# Altium schematic symbol library Microver.SchLib: 988 symbols (part 1 of 17)
Pins are listed as number, name and electrical type; pins without a type are passive.

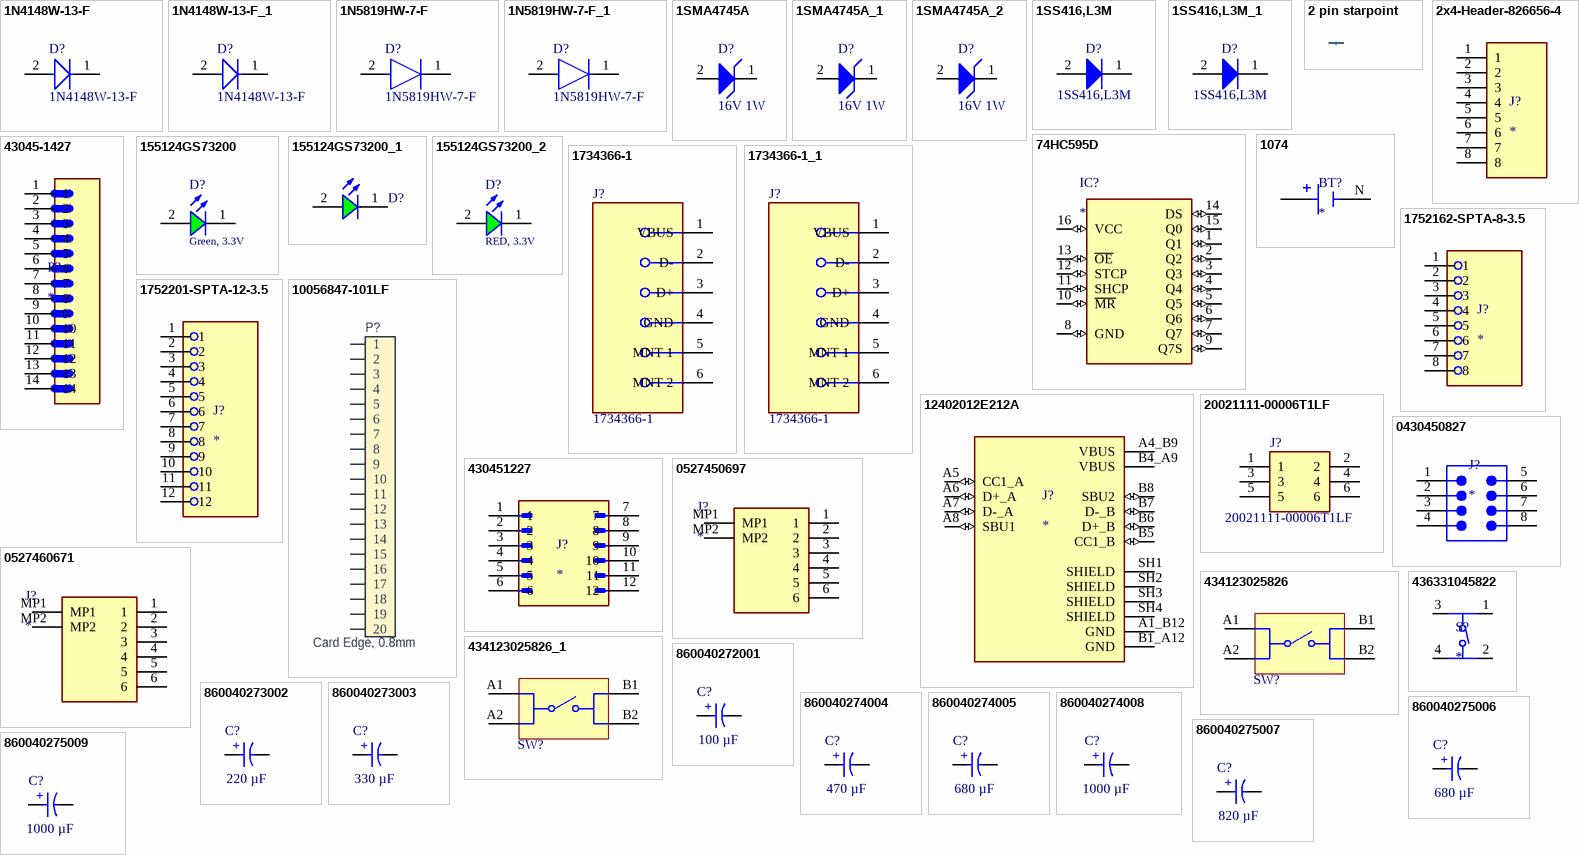
[diagram p0: symbols 1N4148W-13-F to 860040275009]

## 1N4148W-13-F
designator D?, comment Manufacturer Part Number: 1N4148W-13-F  (hidden comment: DIODE GEN PURP 100V 300MA SOD123)
Diode Standard 100 V 300mA Surface Mount SOD-123; Order Code: Digi: 1N4148W-13FDITR-ND; LCSC Manufacturer Part Number: 1N4148W-13-F; LCSC Part Number: C112342
footprint Diodes_Inc._SOD123_IPC_C
pins: 1 C, 2 A

## 1N4148W-13-F_1
designator D?, comment Manufacturer Part Number: 1N4148W-13-F  (hidden comment: DIODE GEN PURP 100V 300MA SOD123)
Diode Standard 100 V 300mA Surface Mount SOD-123; Order Code: Digi: 1N4148W-13FDITR-ND; LCSC Manufacturer Part Number: 1N4148W-13-F; LCSC Part Number: C112342
footprint Diodes_Inc._SOD123_IPC_C
pins: 1 C, 2 A

## 1N5819HW-7-F
designator D?, comment Manufacturer Part Number: 1N5819HW-7-F  (hidden comment: DIODE SCHOTTKY 40V 1A SOD123)
Diode 40 V 1A Surface Mount SOD-123; Order Code: Digi: 1N5819HW-FDITR-ND; LCSC Manufacturer Part Number: 1N5819HW-7-F; LCSC Part Number: C82544
footprint Diodes_SOD123_IPC_A
footprint Diodes_SOD123_IPC_B
footprint Diodes_SOD123_IPC_C
footprint Diodes_SOD123_MFG
pins: 1 C, 2 A

## 1N5819HW-7-F_1
designator D?, comment Manufacturer Part Number: 1N5819HW-7-F  (hidden comment: DIODE SCHOTTKY 40V 1A SOD123)
Diode 40 V 1A Surface Mount SOD-123; Order Code: Digi: 1N5819HW-FDITR-ND; LCSC Manufacturer Part Number: 1N5819HW-7-F; LCSC Part Number: C82544
footprint Diodes_SOD123_IPC_A
footprint Diodes_SOD123_IPC_B
footprint Diodes_SOD123_IPC_C
footprint Diodes_SOD123_MFG
pins: 1 C, 2 A

## 1SMA4745A
designator D?, comment Voltage: 16V 1W  (hidden comment: ±5% Single 15.2V~16.8V 1W 16V SMA(DO-214AC) Zener Diodes ROHS)
Manufacturer Part Number: 1SMA4745A; Order Code: LCSC: C362282; LCSC Manufacturer Part Number: 1SMA4745A; LCSC Part Number: C362282
footprint DIOM5226X230N
pins: 1 K, 2 A

## 1SMA4745A_1
designator D?, comment Voltage: 16V 1W  (hidden comment: ±5% Single 15.2V~16.8V 1W 16V SMA(DO-214AC) Zener Diodes ROHS)
Manufacturer Part Number: 1SMA4745A; Order Code: LCSC: C362282; LCSC Manufacturer Part Number: 1SMA4745A; LCSC Part Number: C362282
footprint DIOM5226X230N
pins: 1 K, 2 A

## 1SMA4745A_2
designator D?, comment Voltage: 16V 1W  (hidden comment: ±5% Single 15.2V~16.8V 1W 16V SMA(DO-214AC) Zener Diodes ROHS)
Manufacturer Part Number: 1SMA4745A; Order Code: LCSC: C362282; LCSC Manufacturer Part Number: 1SMA4745A; LCSC Part Number: C362282
footprint DIOM5226X230N
pins: 1 K, 2 A

## 1SS416,L3M
designator D?
Diode 30 V 100mA Surface Mount SOD-923; LCSC Manufacturer Part Number: 1SS416,L3M(B; Order Code: Digi: 1SS416L3MTR-ND; LCSC Part Number: C2943683; Manufacturer Part Number: 1SS416,L3M
footprint SOD-923-2 (SOD, 2-Leads, Body 0.8x0.6mm)
pins: 1 K, 2 A

## 1SS416,L3M_1
designator D?, comment 1SS416,L3M
Diode 30 V 100mA Surface Mount SOD-923; LCSC Manufacturer Part Number: 1SS416,L3M(B; Order Code: Digi: 1SS416L3MTR-ND; LCSC Part Number: C2943683; Manufacturer Part Number: 1SS416,L3M
footprint SOD-923-2 (SOD, 2-Leads, Body 0.8x0.6mm)
pins: 1 K, 2 A

## 2 pin starpoint
designator ST?, comment Net tie  (value not drawn)  (net tie, no BOM)
Starpoint; Part Number: 2 pin starpoint; Manufacturer: N.A.; Part number NEMS: 100500603; Pad Count: 2; Component Status: Active; System: Connector; Manufacturer Part Number: N.A.; ComponentLink1URL: N.A.; ComponentLink1Description: Datasheet; ComponentLink2URL: N.A.; ComponentLink2Description: Supplier link; HelpURL: N.A.; Footprint Doc: N.A.; LatestRevisionDate: 2017-08-31; Published: 2017-08-31; Value: Net tie; Note: Net tie; Supplier 1: N.A.; Supplier Part Number 1: N.A.; Supplier 2: N.A.; Supplier Part Number 2: N.A.; Artikkelnr Noca: N.A.; Part number IPS: N.A.; Author: rsk; Component Class: Connectors; PartId: 100500603; Part number Norautron: N.A.
footprint 2 PIN STARPOINT
pins: 1, 2

## 2x4-Header-826656-4
designator J?
MP: 826656-4; Package: None; Price: None; Value: *; Availability: Unavailable
footprint TE_826656-4
pins: 1, 2, 3, 4, 5, 6, 7, 8

## 74HC595D
designator IC?
Shift Register Single 8-Bit Serial to Serial/Parallel 16-Pin SOIC T/R; MF: NXP Semiconductors; MP: 74HC595D; SnapEDA_Link: https://www.snapeda.com/parts/74HC595D/NXP+Semiconductors/view-part/?ref=snap; Package: SOIC-16 ON Semiconductor; Value: *; Check_prices: https://www.snapeda.com/parts/74HC595D/NXP+Semiconductors/view-part/?ref=eda
footprint SOIC127P600X175-16N
pins: 1 Q1 (io), 2 Q2 (io), 3 Q3 (io), 4 Q4 (io), 5 Q5 (io), 6 Q6 (io), 7 Q7 (io), 8 GND (io), 9 Q7S (io), 10 ~{MR} (io), 11 SHCP (io), 12 STCP (io), 13 ~{OE} (io), 14 DS (io), 15 Q0 (io), 16 VCC (io)

## 1074
designator BT?
THM (Vertical) Holder for 20mm Cel; MF: Keystone Electronics; MP: 1074; SnapEDA_Link: https://www.snapeda.com/parts/1074/Keystone/view-part/?ref=snap; Package: None; Value: *; Check_prices: https://www.snapeda.com/parts/1074/Keystone/view-part/?ref=eda
footprint BAT_1074
pins: N NEG, P_1 POS, P_2 POS

## 43045-1427
designator P?
Conn Power HDR 14 POS 3mm Solder ST Thru-Hole 14 Terminal 1 Port Micro-Fit 3.0; MP: 43045-1427; Price: None; Package: None; Availability: Unavailable; Value: *
footprint MOLEX_43045-1427
pins: 1, 2, 3, 4, 5, 6, 7, 8, 9, 10, 11, 12, 13, 14

## 155124GS73200
designator D?, comment Green, 3.3V
WURTH ELEKTRONIK   155124GS73200   LED, 1204, GREEN, 600MCD, 525NM; Manufacturer: Wurth Electronics; Color: Yellow; Viewing Angle: 120°; Lens Style: Clear,Dome; Test Current: 20mA; Forward Current: 25mA; ComponentLink1Description: Manufacturer; ComponentLink1URL: http://www.we-online.de; ComponentLink2URL: https://www.we-online.com/catalog/datasheet/155124GS73200.pdf; ComponentLink2Description: Datasheet; Supplier 1: Digi-Key; Supplier Part Number 1: 732-5024-1-ND; Manufacturer Part Number: 155124GS73200; RoHS: Yes; Category: LEDs; Stock 1: 15068; Pricing 1: 1=0,45000, 50=0,41800, 100=0,35900, 500=0,28400 (USD); Mount: Surface Mount; Case/Package: 1204; Min Operating Temperature: -40°C; Max Operating Temperature: 85°C; Packaging: Tape and Reel; Luminous Intensity: 600mcd; Forward Voltage: 3.3V; Dominant Wavelength: 525nm; Package Quantity: 1; Wavelength: 525nm; Length: 3.2mm; Width: 1.5mm; Height: 1mm; RoHS Compliant: Yes; REACH SVHC: Unknown; ComponentLink3URL: https://datasheet.ciiva.com/29562/155124gs73200-29562964.pdf?src-supplier=Digi-Key; ComponentLink3Description: https://datasheet.ciiva.com/29562/155124gs73200-29562964.pdf?src-supplier=Digi-Key; ComponentLink4URL: https://datasheet.ciiva.com/29279/759456-da-01-en-smd-chipled-s-v-gruen-155124gs73200-29279079.pdf?src-supplier=Conrad; ComponentLink4Description: https://datasheet.ciiva.com/29279/759456-da-01-en-smd-chipled-s-v-gruen-155124gs73200-29279079.pdf?src-supplier=Conrad; ComponentLink5URL: https://datasheet.ciiva.com/29562/155124gs73200-29562965.pdf?src-supplier=Digi-Key; ComponentLink5Description: https://datasheet.ciiva.com/29562/155124gs73200-29562965.pdf?src-supplier=Digi-Key; ComponentLink6URL: https://datasheet.ciiva.com/48430/155124gs73200-eng-tds-48430069.pdf?src-supplier=Distrelec; ComponentLink6Description: https://datasheet.ciiva.com/48430/155124gs73200-eng-tds-48430069.pdf?src-supplier=Distrelec; ComponentLink7URL: https://datasheet.ciiva.com/29562/155124gs73200-29562966.pdf?src-supplier=Digi-Key; ComponentLink7Description: https://datasheet.ciiva.com/29562/155124gs73200-29562966.pdf?src-supplier=Digi-Key
footprint WL-SMSW_1204
pins: 1 K, 2 A

## 155124GS73200_1
designator D?, comment Green, 3.3V  (value not drawn)
Green 525nm LED Indication - Discrete 3.3V 2-SMD, Side View; Manufacturer Part Number: 155124GS73200
footprint WL-SMSW_1204
pins: 1 K, 2 A

## 155124GS73200_2
designator D?, comment RED, 3.3V
LED RED CLEAR 1204 SMD R/A; Manufacturer: Wurth Electronics; Manufacturer Part Number: 155124RS73200; Luminous Intensity: 130mcd; Viewing Angle: 120°; Forward Voltage: 2V; Lens Style: Clear,Dome; Dominant Wavelength: 624nm; Test Current: 20mA; Forward Current: 25mA; ComponentLink1Description: Manufacturer; ComponentLink1URL: http://www.we-online.de; ComponentLink2URL: https://www.we-online.com/catalog/datasheet/155124GS73200.pdf; ComponentLink2Description: Datasheet; ComponentLink3URL: https://datasheet.ciiva.com/29562/155124gs73200-29562964.pdf?src-supplier=Digi-Key; ComponentLink3Description: https://datasheet.ciiva.com/29562/155124gs73200-29562964.pdf?src-supplier=Digi-Key; ComponentLink4URL: https://datasheet.ciiva.com/29279/759456-da-01-en-smd-chipled-s-v-gruen-155124gs73200-29279079.pdf?src-supplier=Conrad; ComponentLink4Description: https://datasheet.ciiva.com/29279/759456-da-01-en-smd-chipled-s-v-gruen-155124gs73200-29279079.pdf?src-supplier=Conrad; ComponentLink5URL: https://datasheet.ciiva.com/29562/155124gs73200-29562965.pdf?src-supplier=Digi-Key; ComponentLink5Description: https://datasheet.ciiva.com/29562/155124gs73200-29562965.pdf?src-supplier=Digi-Key; ComponentLink6URL: https://datasheet.ciiva.com/48430/155124gs73200-eng-tds-48430069.pdf?src-supplier=Distrelec; ComponentLink6Description: https://datasheet.ciiva.com/48430/155124gs73200-eng-tds-48430069.pdf?src-supplier=Distrelec; ComponentLink7URL: https://datasheet.ciiva.com/29562/155124gs73200-29562966.pdf?src-supplier=Digi-Key; ComponentLink7Description: https://datasheet.ciiva.com/29562/155124gs73200-29562966.pdf?src-supplier=Digi-Key; Supplier 1: Digi-Key; Supplier Part Number 1: 732-5025-1-ND; RoHS: Yes; Category: LEDs; Pricing 1: 1=0,20000, 50=0,18300, 100=0,15800, 500=0,12500 (USD); Mount: Surface Mount; Case/Package: 1204; Color: Red; Min Operating Temperature: -40°C; Max Operating Temperature: 85°C; Packaging: Tape and Reel; Wavelength: 624nm; Package Quantity: 1; Length: 3.2mm; Width: 1.5mm; Height: 1mm; RoHS Compliant: Yes; REACH SVHC: Unknown; ComponentLink8URL: https://datasheet.ciiva.com/22657/155124rs73200-22657057.pdf?src-supplier=Element14; ComponentLink8Description: https://datasheet.ciiva.com/22657/155124rs73200-22657057.pdf?src-supplier=Element14; ComponentLink9URL: https://datasheet.ciiva.com/29278/759458-da-01-en-smd-chipled-s-v-rot-155124rs73200-29278943.pdf?src-supplier=Conrad; ComponentLink9Description: https://datasheet.ciiva.com/29278/759458-da-01-en-smd-chipled-s-v-rot-155124rs73200-29278943.pdf?src-supplier=Conrad; ComponentLink10URL: https://datasheet.ciiva.com/48430/155124rs73200-eng-tds-48430070.pdf?src-supplier=Distrelec; ComponentLink10Description: https://datasheet.ciiva.com/48430/155124rs73200-eng-tds-48430070.pdf?src-supplier=Distrelec; ComponentLink11URL: https://datasheet.ciiva.com/29563/155124rs73200-29563003.pdf?src-supplier=Digi-Key; ComponentLink11Description: https://datasheet.ciiva.com/29563/155124rs73200-29563003.pdf?src-supplier=Digi-Key; ComponentLink12URL: https://datasheet.ciiva.com/29563/155124rs73200-29563004.pdf?src-supplier=Digi-Key; ComponentLink12Description: https://datasheet.ciiva.com/29563/155124rs73200-29563004.pdf?src-supplier=Digi-Key; ComponentLink13URL: https://datasheet.ciiva.com/29563/155124rs73200-29563005.pdf?src-supplier=Digi-Key; ComponentLink13Description: https://datasheet.ciiva.com/29563/155124rs73200-29563005.pdf?src-supplier=Digi-Key
footprint WL-SMSW_1204
footprint WL-SMSW_1204 (SMD Mono-color Side view Waterclear, body 3.2x1.5mm)
pins: 1 K, 2 A

## 1734366-1
designator J?, comment Manufacturer Part Number: 1734366-1  (hidden comment: CONN RCPT USB2.0 TYPEA 4POS VERT)
Type-A 1 Female 4 USB 2.0 Plugin USB Connectors ROHS; Order Code: LSCS:  C305910; LCSC Manufacturer Part Number: 1734366-1; LCSC Part Number: C305910
footprint Wurth_Electronics_614004135023_MFG
pins: 1 VBUS, 2 D-, 3 D+, 4 GND, 5 MNT 1, 6 MNT 2

## 1734366-1_1
designator J?, comment Manufacturer Part Number: 1734366-1  (hidden comment: CONN RCPT USB2.0 TYPEA 4POS VERT)
Type-A 1 Female 4 USB 2.0 Plugin USB Connectors ROHS; Order Code: LSCS:  C305910; LCSC Manufacturer Part Number: 1734366-1; LCSC Part Number: C305910
footprint Wurth_Electronics_614004135023_MFG
pins: 1 VBUS, 2 D-, 3 D+, 4 GND, 5 MNT 1, 6 MNT 2

## 1752162-SPTA-8-3.5
designator J?
MF: {'manufacturer': u'Phoenix Contact'}; MP: 1752162; Package: None; Price: None; Value: *; Availability: Unavailable
footprint PHOENIX_1752162
pins: 1, 2, 3, 4, 5, 6, 7, 8

## 1752201-SPTA-12-3.5
designator J?
MP: 1752201; Package: None; Price: None; Value: *; Availability: Unavailable; Manufacturer Part Number: 1752201
footprint PHOENIX_1752201
pins: 1, 2, 3, 4, 5, 6, 7, 8, 9, 10, 11, 12

## 10056847-101LF
designator P?, comment Card Edge, 0.8mm
0.8mm pitch, dual edge, right angle, SMD, card edge connector; Part Number: 10056847-101LF; Manufacturer: FCI; Part number NEMS: 100500633; Note: N.A.; Pad Count: 20; Component Status: Active; Manufacturer Part Number: 10056847-101LF; ComponentLink1URL: https://www.amphenol-icc.com/media/wysiwyg/files/drawing/10056847.pdf; ComponentLink1Description: Datasheet; ComponentLink2URL: N.A.; ComponentLink2Description: Supplier link; HelpURL: N.A.; Footprint Doc: 10056847-101LF; LatestRevisionDate: 2018-05-07; Published: 2018-05-07; Value: Card Edge, 0.8mm; Supplier 1: Digi-Key; Supplier Part Number 1: 609-4943-1-ND; Supplier 2: N.A.; Supplier Part Number 2: N.A.; Artikkelnr Noca: N.A.; Part number IPS: N.A.; Component Class: Connectors; PartId: 100500633; Author: rsk; Part number Norautron: N.A.; System: Connector
footprint 10056847-101LF
pins: 1, 2, 3, 4, 5, 6, 7, 8, 9, 10, 11, 12, 13, 14, 15, 16, 17, 18, 19, 20
1 alternate drawing of the same symbol

## 12402012E212A
designator J?
USB2.0, Type C, Top mount, CH 1.68mm, Dual Row SMT; MP: 12402012E212A; MF: Amphenol ICC (Commercial Products); Price: None; Package: None; Availability: In Stock; SnapEDA_Link: https://www.snapeda.com/parts/12402012E212A/Amphenol/view-part/?ref=snap; Value: *; Check_prices: https://www.snapeda.com/parts/12402012E212A/Amphenol/view-part/?ref=eda; Purchase-URL: https://pricing.snapeda.com/search/part/12402012E212A/?ref=eda
footprint AMPHENOL_12402012E212A
pins: A1_B12 GND (power), A4_B9 VBUS (power), A5 CC1_A (io), A6 D+_A (io), A7 D-_A (io), A8 SBU1 (io), B1_A12 GND (power), B4_A9 VBUS (power), B5 CC1_B (io), B6 D+_B (io), B7 D-_B (io), B8 SBU2 (io), SH1 SHIELD, SH2 SHIELD, SH3 SHIELD, SH4 SHIELD

## 20021111-00006T1LF
designator J?
Connector; Manufacturer_Name: Amphenol; Datasheet Link: https://cdn.amphenol-cs.com/media/wysiwyg/files/drawing/20021111.pdf; Height: 5.75mm; Manufacturer_Part_Number: 20021111-00006T1LF; Mouser Part Number: 649-200211110006T1LF; Mouser Price/Stock: https://www.mouser.co.uk/ProductDetail/Amphenol-FCI/20021111-00006T1LF?qs=nwYJ12Fl9gSJRmU9Y4cNEQ%3D%3D
footprint 2002111100006T1LF
pins: 1, 2, 3, 4, 5, 6

## 0430450827
designator J?
Micro-fit 3.0 Connector, 8 Circuit Dual Row, Vertical Throughhole PCB, Metal Retention Clip; MP: 0430450827; MF: Molex; SnapEDA_Link: https://www.snapeda.com/parts/0430450827/Molex/view-part/615982/?ref=snap; Value: *; Package: None; Price: None; Availability: Unavailable
footprint MOLEX_0430450827
pins: 1, 2, 3, 4, 5, 6, 7, 8

## 430451227
designator J?
Connector Header Through Hole 12 position 0.118 (3.00mm); MP: 43045-1227; MF: Molex; Value: *; Package: None; Price: None; Check_prices: https://www.snapeda.com/parts/43045-1227/Molex/view-part/?ref=eda; SnapEDA_Link: https://www.snapeda.com/parts/43045-1227/Molex/view-part/?ref=snap; Availability: Not in stock
footprint MOLEX_430451227
pins: 1, 2, 3, 4, 5, 6, 7, 8, 9, 10, 11, 12

## 0527450697
designator J?
Connector; Manufacturer_Name: Molex; Manufacturer_Part_Number: 0527450697; Datasheet Link: https://www.molex.com/webdocs/datasheets/pdf/en-us/0527450697_FFC_FPC_CONNECTORS.pdf; Height: 2.2mm; Mouser Part Number: N/A; Mouser Price/Stock: https://www.mouser.co.uk/ProductDetail/Molex/0527450697?qs=PBcRNPEHKspijnJjd7QCjQ%3D%3D; Arrow Part Number: 0527450697; Arrow Price/Stock: https://www.arrow.com/en/products/0527450697/molex?region=nac
footprint 0527450697
pins: 1, 2, 3, 4, 5, 6, MP1, MP2

## 0527460671
designator J?
Connector; Manufacturer_Name: Molex; Manufacturer_Part_Number: 0527460671; Datasheet Link: https://www.molex.com/pdm_docs/sd/527460671_sd.pdf; Height: 2.2mm; Mouser Part Number: N/A; Mouser Price/Stock: https://www.mouser.co.uk/ProductDetail/Molex/0527460671?qs=PBcRNPEHKspgkgRmcbKK5A%3D%3D; Arrow Part Number: 0527460671; Arrow Price/Stock: https://www.arrow.com/en/products/0527460671/molex
footprint 0527460671
pins: 1, 2, 3, 4, 5, 6, MP1, MP2

## 434123025826
designator SW?  (value not drawn)
WS-TASV J-Bend SMT Tact Switch, L4.2 x W3.2 x H2.5mm, 260g, SPST-NO, 16V, 50mA; Manufacturer: Wurth Elektronik; LCSC Manufacturer Part Number: PTS810SJS250SMTRLFS; Washable: No; Manufacturer Part Number: 434123025826; Category: Tact Switches; Match Code: WS-TASV; ComponentLink1Description: Website Link; ComponentLink1URL: https://www.we-online.com/redexpert/article/434123025826?ad; ComponentLink2Description: Datasheet Link; ComponentLink2URL: https://www.we-online.com/redexpert/spec/434123025826?ad; Mount: Surface Mount; Operating Temperature Max: 85°C; Operating Temperature Min: -40°C; Packaging: Tape and Reel; Length: 4.2mm; Width: 3.2mm; Height: 2.5mm; Circuit: SPST-NO; Contact Material: Stainless Steel; Contact Plating: Silver; Operation Force: 260g; Rated Current: 50mA; Rated Voltage (DC): 16V; Terminal Material: Copper Alloy; Terminal Plating: Silver; LCSC Part Number: C221897
footprint WS-TASV_L4.2W3.2H2.5_4341x30258x6
pins: A1, A2, B1, B2

## 434123025826_1
designator SW?, comment 434123025826  (value not drawn)
WS-TASV J-Bend SMT Tact Switch, L4.2 x W3.2 x H2.5mm, 260g, SPST-NO, 16V, 50mA; Manufacturer: Wurth Elektronik; LCSC Manufacturer Part Number: PTS810SJS250SMTRLFS; Washable: No; Manufacturer Part Number: 434123025826; Category: Tact Switches; Match Code: WS-TASV; ComponentLink1Description: Website Link; ComponentLink1URL: https://www.we-online.com/redexpert/article/434123025826?ad; ComponentLink2Description: Datasheet Link; ComponentLink2URL: https://www.we-online.com/redexpert/spec/434123025826?ad; Mount: Surface Mount; Operating Temperature Max: 85°C; Operating Temperature Min: -40°C; Packaging: Tape and Reel; Length: 4.2mm; Width: 3.2mm; Height: 2.5mm; Circuit: SPST-NO; Contact Material: Stainless Steel; Contact Plating: Silver; Operation Force: 260g; Rated Current: 50mA; Rated Voltage (DC): 16V; Terminal Material: Copper Alloy; Terminal Plating: Silver; LCSC Part Number: C221897
footprint WS-TASV_L4.2W3.2H2.5_4341x30258x6
pins: A1, A2, B1, B2

## 436331045822
designator S?
4.7*3.5mm, side push type, SMT, with boss design, height 1.65mm, black actuator , 220gf, T&R; MF: Wurth Electronics; MP: 436331045822; SnapEDA_Link: https://www.snapeda.com/parts/436331045822/Wurth+Electronics/view-part/?ref=snap; Package: None; Value: *; Check_prices: https://www.snapeda.com/parts/436331045822/Wurth+Electronics/view-part/?ref=eda
footprint 4363X10458XX
pins: 1 3, 2 4, 3 1, 4 2

## 860040272001
designator C?, comment 100 µF
WCAP-ATUL Aluminum Electrolytic Capacitor, Radial, THT, D5 x H11 mm, 100 µF, 10 V; Manufacturer Part Number: 860040272001; Manufacturer: Wurth Elektronik; Capacitance Tolerance: 20%; Dissipation Factor: 19%; Endurance: 4000 h; Leakage Current: 10 µA; Rated Voltage (DC): 10 V; Ripple Current: 215 mA; Category: Aluminum Electrolytic Capacitors; Match Code: WCAP-ATUL; ComponentLink1Description: Website Link; ComponentLink1URL: https://www.we-online.com/redexpert/article/860040272001?ad; ComponentLink2Description: Datasheet Link; ComponentLink2URL: https://www.we-online.com/redexpert/spec/860040272001?ad; Mount: Through Hole; Min Operating Temperature: -40 °C; Max Operating Temperature: 105 °C; Packaging: Ammo Pack; Height: 11 mm; Diameter: 5 mm; Capacitance: 100 µF
footprint WCAP-ATUL_D5H11
simulation model 860040272001_100uF
pins: 1 P, 2 N
text: +

## 860040273002
designator C?, comment 220 µF
WCAP-ATUL Aluminum Electrolytic Capacitor, Radial, THT, D6.3 x H11 mm, 220 µF, 10 V; Manufacturer Part Number: 860040273002; Manufacturer: Wurth Elektronik; Capacitance Tolerance: 20%; Dissipation Factor: 19%; Endurance: 4000 h; Leakage Current: 22 µA; Rated Voltage (DC): 10 V; Ripple Current: 340 mA; Category: Aluminum Electrolytic Capacitors; Match Code: WCAP-ATUL; ComponentLink1Description: Website Link; ComponentLink1URL: https://www.we-online.com/redexpert/article/860040273002?ad; ComponentLink2Description: Datasheet Link; ComponentLink2URL: https://www.we-online.com/redexpert/spec/860040273002?ad; Mount: Through Hole; Min Operating Temperature: -40 °C; Max Operating Temperature: 105 °C; Packaging: Ammo Pack; Height: 11 mm; Diameter: 6.3 mm; Capacitance: 220 µF
footprint WCAP-ATUL_D6.3H11
simulation model 860040273002_220uF
pins: 1 P, 2 N
text: +

## 860040273003
designator C?, comment 330 µF
WCAP-ATUL Aluminum Electrolytic Capacitor, Radial, THT, D6.3 x H11 mm, 330 µF, 10 V; Manufacturer Part Number: 860040273003; Manufacturer: Wurth Elektronik; Capacitance Tolerance: 20%; Dissipation Factor: 19%; Endurance: 4000 h; Leakage Current: 33 µA; Rated Voltage (DC): 10 V; Ripple Current: 380 mA; Category: Aluminum Electrolytic Capacitors; Match Code: WCAP-ATUL; ComponentLink1Description: Website Link; ComponentLink1URL: https://www.we-online.com/redexpert/article/860040273003?ad; ComponentLink2Description: Datasheet Link; ComponentLink2URL: https://www.we-online.com/redexpert/spec/860040273003?ad; Mount: Through Hole; Min Operating Temperature: -40 °C; Max Operating Temperature: 105 °C; Packaging: Ammo Pack; Height: 11 mm; Diameter: 6.3 mm; Capacitance: 330 µF
footprint WCAP-ATUL_D6.3H11
simulation model 860040273003_330uF
pins: 1 P, 2 N
text: +

## 860040274004
designator C?, comment 470 µF
WCAP-ATUL Aluminum Electrolytic Capacitor, Radial, THT, D8 x H11.5 mm, 470 µF, 10 V; Manufacturer Part Number: 860040274004; Manufacturer: Wurth Elektronik; Capacitance Tolerance: 20%; Dissipation Factor: 19%; Endurance: 6000 h; Leakage Current: 47 µA; Rated Voltage (DC): 10 V; Ripple Current: 600 mA; Category: Aluminum Electrolytic Capacitors; Match Code: WCAP-ATUL; ComponentLink1Description: Website Link; ComponentLink1URL: https://www.we-online.com/redexpert/article/860040274004?ad; ComponentLink2Description: Datasheet Link; ComponentLink2URL: https://www.we-online.com/redexpert/spec/860040274004?ad; Mount: Through Hole; Min Operating Temperature: -40 °C; Max Operating Temperature: 105 °C; Packaging: Ammo Pack; Height: 11.5 mm; Diameter: 8 mm; Capacitance: 470 µF
footprint WCAP-ATUL_D8H11.5
simulation model 860040274004_470uF
pins: 1 P, 2 N
text: +

## 860040274005
designator C?, comment 680 µF
WCAP-ATUL Aluminum Electrolytic Capacitor, Radial, THT, D8 x H16 mm, 680 µF, 10 V; Manufacturer Part Number: 860040274005; Manufacturer: Wurth Elektronik; Capacitance Tolerance: 20%; Dissipation Factor: 19%; Endurance: 6000 h; Leakage Current: 68 µA; Rated Voltage (DC): 10 V; Ripple Current: 770 mA; Category: Aluminum Electrolytic Capacitors; Match Code: WCAP-ATUL; ComponentLink1Description: Website Link; ComponentLink1URL: https://www.we-online.com/redexpert/article/860040274005?ad; ComponentLink2Description: Datasheet Link; ComponentLink2URL: https://www.we-online.com/redexpert/spec/860040274005?ad; Mount: Through Hole; Min Operating Temperature: -40 °C; Max Operating Temperature: 105 °C; Packaging: Ammo Pack; Height: 16 mm; Diameter: 8 mm; Capacitance: 680 µF
footprint WCAP-ATUL_D8H16
simulation model 860040274005_680uF
pins: 1 P, 2 N
text: +

## 860040274008
designator C?, comment 1000 µF
WCAP-ATUL Aluminum Electrolytic Capacitor, Radial, THT, D8 x H20 mm, 1000 µF, 10 V; Manufacturer Part Number: 860040274008; Manufacturer: Wurth Elektronik; Capacitance Tolerance: 20%; Dissipation Factor: 19%; Endurance: 6000 h; Leakage Current: 100 µA; Rated Voltage (DC): 10 V; Ripple Current: 1050 mA; Category: Aluminum Electrolytic Capacitors; Match Code: WCAP-ATUL; ComponentLink1Description: Website Link; ComponentLink1URL: https://www.we-online.com/redexpert/article/860040274008?ad; ComponentLink2Description: Datasheet Link; ComponentLink2URL: https://www.we-online.com/redexpert/spec/860040274008?ad; Mount: Through Hole; Min Operating Temperature: -40 °C; Max Operating Temperature: 105 °C; Packaging: Ammo Pack; Height: 20 mm; Diameter: 8 mm; Capacitance: 1000 µF
footprint WCAP-ATUL_D8H20
simulation model 860040274008_1mF
pins: 1 P, 2 N
text: +

## 860040275006
designator C?, comment 680 µF
WCAP-ATUL Aluminum Electrolytic Capacitor, Radial, THT, D10 x H12.5 mm, 680 µF, 10 V; Manufacturer Part Number: 860040275006; Manufacturer: Wurth Elektronik; Capacitance Tolerance: 20%; Dissipation Factor: 19%; Endurance: 6000 h; Leakage Current: 68 µA; Rated Voltage (DC): 10 V; Ripple Current: 800 mA; Category: Aluminum Electrolytic Capacitors; Match Code: WCAP-ATUL; ComponentLink1Description: Website Link; ComponentLink1URL: https://www.we-online.com/redexpert/article/860040275006?ad; ComponentLink2Description: Datasheet Link; ComponentLink2URL: https://www.we-online.com/redexpert/spec/860040275006?ad; Mount: Through Hole; Min Operating Temperature: -40 °C; Max Operating Temperature: 105 °C; Packaging: Ammo Pack; Height: 12.5 mm; Diameter: 10 mm; Capacitance: 680 µF
footprint WCAP-ATUL_D10H12.5
simulation model 860040275006_680uF
pins: 1 P, 2 N
text: +

## 860040275007
designator C?, comment 820 µF
WCAP-ATUL Aluminum Electrolytic Capacitor, Radial, THT, D10 x H16 mm, 820 µF, 10 V; Manufacturer Part Number: 860040275007; Manufacturer: Wurth Elektronik; Capacitance Tolerance: 20%; Dissipation Factor: 19%; Endurance: 6000 h; Leakage Current: 82 µA; Rated Voltage (DC): 10 V; Ripple Current: 920 mA; Category: Aluminum Electrolytic Capacitors; Match Code: WCAP-ATUL; ComponentLink1Description: Website Link; ComponentLink1URL: https://www.we-online.com/redexpert/article/860040275007?ad; ComponentLink2Description: Datasheet Link; ComponentLink2URL: https://www.we-online.com/redexpert/spec/860040275007?ad; Mount: Through Hole; Min Operating Temperature: -40 °C; Max Operating Temperature: 105 °C; Packaging: Ammo Pack; Height: 16 mm; Diameter: 10 mm; Capacitance: 820 µF
footprint WCAP-ATUL_D10H16
simulation model 860040275007_820uF
pins: 1 P, 2 N
text: +

## 860040275009
designator C?, comment 1000 µF
WCAP-ATUL Aluminum Electrolytic Capacitor, Radial, THT, D10 x H16 mm, 1000 µF, 10 V; Manufacturer Part Number: 860040275009; Manufacturer: Wurth Elektronik; Capacitance Tolerance: 20%; Dissipation Factor: 19%; Endurance: 6000 h; Leakage Current: 100 µA; Rated Voltage (DC): 10 V; Ripple Current: 1110 mA; Category: Aluminum Electrolytic Capacitors; Match Code: WCAP-ATUL; ComponentLink1Description: Website Link; ComponentLink1URL: https://www.we-online.com/redexpert/article/860040275009?ad; ComponentLink2Description: Datasheet Link; ComponentLink2URL: https://www.we-online.com/redexpert/spec/860040275009?ad; Mount: Through Hole; Min Operating Temperature: -40 °C; Max Operating Temperature: 105 °C; Packaging: Ammo Pack; Height: 16 mm; Diameter: 10 mm; Capacitance: 1000 µF
footprint WCAP-ATUL_D10H16
simulation model 860040275009_1mF
pins: 1 P, 2 N
text: +

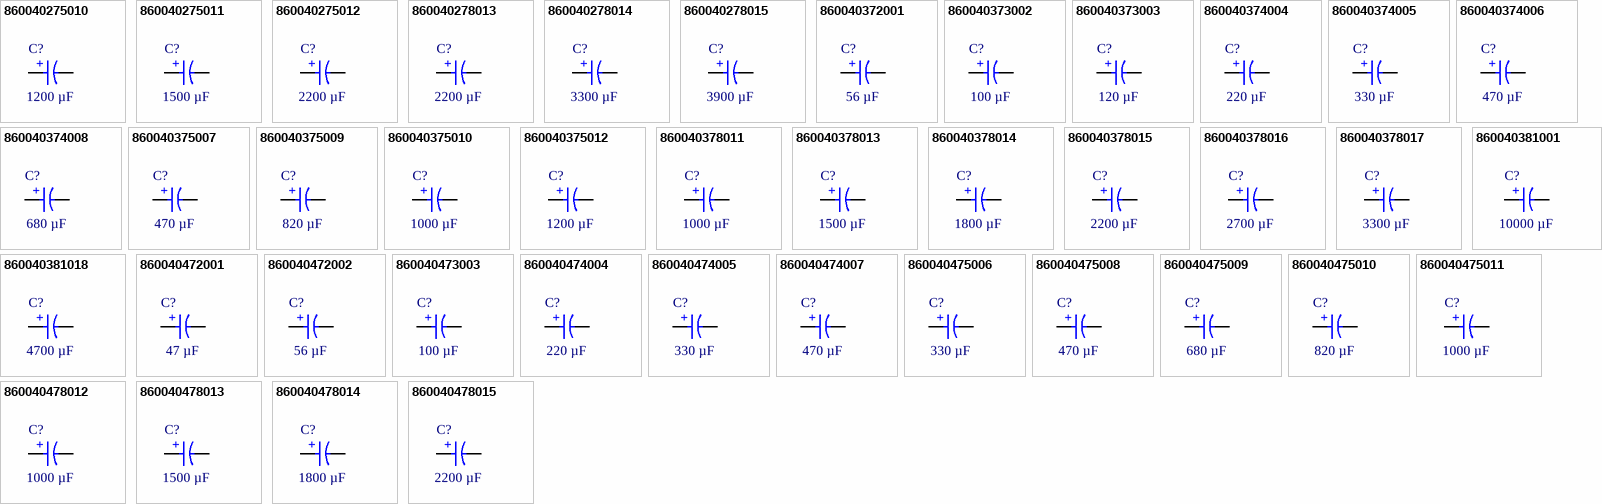
[diagram p1: symbols 860040275010 to 860040478015]

## 860040275010
designator C?, comment 1200 µF
WCAP-ATUL Aluminum Electrolytic Capacitor, Radial, THT, D10 x H20 mm, 1200 µF, 10 V; Manufacturer Part Number: 860040275010; Manufacturer: Wurth Elektronik; Capacitance Tolerance: 20%; Dissipation Factor: 19%; Endurance: 6000 h; Leakage Current: 120 µA; Rated Voltage (DC): 10 V; Ripple Current: 1380 mA; Category: Aluminum Electrolytic Capacitors; Match Code: WCAP-ATUL; ComponentLink1Description: Website Link; ComponentLink1URL: https://www.we-online.com/redexpert/article/860040275010?ad; ComponentLink2Description: Datasheet Link; ComponentLink2URL: https://www.we-online.com/redexpert/spec/860040275010?ad; Mount: Through Hole; Min Operating Temperature: -40 °C; Max Operating Temperature: 105 °C; Packaging: Ammo Pack; Height: 20 mm; Diameter: 10 mm; Capacitance: 1200 µF
footprint WCAP-ATUL_D10H20
simulation model 860040275010_1.2mF
pins: 1 P, 2 N
text: +

## 860040275011
designator C?, comment 1500 µF
WCAP-ATUL Aluminum Electrolytic Capacitor, Radial, THT, D10 x H25 mm, 1500 µF, 10 V; Manufacturer Part Number: 860040275011; Manufacturer: Wurth Elektronik; Capacitance Tolerance: 20%; Dissipation Factor: 19%; Endurance: 6000 h; Leakage Current: 150 µA; Rated Voltage (DC): 10 V; Ripple Current: 1550 mA; Category: Aluminum Electrolytic Capacitors; Match Code: WCAP-ATUL; ComponentLink1Description: Website Link; ComponentLink1URL: https://www.we-online.com/redexpert/article/860040275011?ad; ComponentLink2Description: Datasheet Link; ComponentLink2URL: https://www.we-online.com/redexpert/spec/860040275011?ad; Mount: Through Hole; Min Operating Temperature: -40 °C; Max Operating Temperature: 105 °C; Packaging: Ammo Pack; Height: 25 mm; Diameter: 10 mm; Capacitance: 1500 µF
footprint WCAP-ATUL_D10H25
simulation model 860040275011_1.5mF
pins: 1 P, 2 N
text: +

## 860040275012
designator C?, comment 2200 µF
WCAP-ATUL Aluminum Electrolytic Capacitor, Radial, THT, D10 x H30 mm, 2200 µF, 10 V; Manufacturer Part Number: 860040275012; Manufacturer: Wurth Elektronik; Capacitance Tolerance: 20%; Dissipation Factor: 19%; Endurance: 6000 h; Leakage Current: 220 µA; Rated Voltage (DC): 10 V; Ripple Current: 1880 mA; Category: Aluminum Electrolytic Capacitors; Match Code: WCAP-ATUL; ComponentLink1Description: Website Link; ComponentLink1URL: https://www.we-online.com/redexpert/article/860040275012?ad; ComponentLink2Description: Datasheet Link; ComponentLink2URL: https://www.we-online.com/redexpert/spec/860040275012?ad; Mount: Through Hole; Min Operating Temperature: -40 °C; Max Operating Temperature: 105 °C; Packaging: Ammo Pack; Height: 30 mm; Diameter: 10 mm; Capacitance: 2200 µF
footprint WCAP-ATUL_D10H30
simulation model 860040275012_2.2mF
pins: 1 P, 2 N
text: +

## 860040278013
designator C?, comment 2200 µF
WCAP-ATUL Aluminum Electrolytic Capacitor, Radial, THT, D13 x H20 mm, 2200 µF, 10 V; Manufacturer Part Number: 860040278013; Manufacturer: Wurth Elektronik; Capacitance Tolerance: 20%; Dissipation Factor: 19%; Endurance: 8000 h; Leakage Current: 220 µA; Rated Voltage (DC): 10 V; Ripple Current: 1800 mA; Category: Aluminum Electrolytic Capacitors; Match Code: WCAP-ATUL; ComponentLink1Description: Website Link; ComponentLink1URL: https://www.we-online.com/redexpert/article/860040278013?ad; ComponentLink2Description: Datasheet Link; ComponentLink2URL: https://www.we-online.com/redexpert/spec/860040278013?ad; Mount: Through Hole; Min Operating Temperature: -40 °C; Max Operating Temperature: 105 °C; Packaging: Ammo Pack; Height: 20 mm; Diameter: 13 mm; Capacitance: 2200 µF
footprint WCAP-ATUL_D13H20
simulation model 860040278013_2.2mF
pins: 1 P, 2 N
text: +

## 860040278014
designator C?, comment 3300 µF
WCAP-ATUL Aluminum Electrolytic Capacitor, Radial, THT, D13 x H25 mm, 3300 µF, 10 V; Manufacturer Part Number: 860040278014; Manufacturer: Wurth Elektronik; Capacitance Tolerance: 20%; Dissipation Factor: 19%; Endurance: 8000 h; Leakage Current: 330 µA; Rated Voltage (DC): 10 V; Ripple Current: 2120 mA; Category: Aluminum Electrolytic Capacitors; Match Code: WCAP-ATUL; ComponentLink1Description: Website Link; ComponentLink1URL: https://www.we-online.com/redexpert/article/860040278014?ad; ComponentLink2Description: Datasheet Link; ComponentLink2URL: https://www.we-online.com/redexpert/spec/860040278014?ad; Mount: Through Hole; Min Operating Temperature: -40 °C; Max Operating Temperature: 105 °C; Packaging: Ammo Pack; Height: 25 mm; Diameter: 13 mm; Capacitance: 3300 µF
footprint WCAP-ATUL_D13H25
simulation model 860040278014_3.3mF
pins: 1 P, 2 N
text: +

## 860040278015
designator C?, comment 3900 µF
WCAP-ATUL Aluminum Electrolytic Capacitor, Radial, THT, D13 x H30 mm, 3900 µF, 10 V; Manufacturer Part Number: 860040278015; Manufacturer: Wurth Elektronik; Capacitance Tolerance: 20%; Dissipation Factor: 19%; Endurance: 8000 h; Leakage Current: 390 µA; Rated Voltage (DC): 10 V; Ripple Current: 2400 mA; Category: Aluminum Electrolytic Capacitors; Match Code: WCAP-ATUL; ComponentLink1Description: Website Link; ComponentLink1URL: https://www.we-online.com/redexpert/article/860040278015?ad; ComponentLink2Description: Datasheet Link; ComponentLink2URL: https://www.we-online.com/redexpert/spec/860040278015?ad; Mount: Through Hole; Min Operating Temperature: -40 °C; Max Operating Temperature: 105 °C; Packaging: Ammo Pack; Height: 30 mm; Diameter: 13 mm; Capacitance: 3900 µF
footprint WCAP-ATUL_D13H30
simulation model 860040278015_3.9mF
pins: 1 P, 2 N
text: +

## 860040372001
designator C?, comment 56 µF
WCAP-ATUL Aluminum Electrolytic Capacitor, Radial, THT, D5 x H11 mm, 56 µF, 16 V; Manufacturer Part Number: 860040372001; Manufacturer: Wurth Elektronik; Capacitance Tolerance: 20%; Dissipation Factor: 16%; Endurance: 5000 h; Leakage Current: 8.96 µA; Rated Voltage (DC): 16 V; Ripple Current: 200 mA; Category: Aluminum Electrolytic Capacitors; Match Code: WCAP-ATUL; ComponentLink1Description: Website Link; ComponentLink1URL: https://www.we-online.com/redexpert/article/860040372001?ad; ComponentLink2Description: Datasheet Link; ComponentLink2URL: https://www.we-online.com/redexpert/spec/860040372001?ad; Mount: Through Hole; Min Operating Temperature: -40 °C; Max Operating Temperature: 105 °C; Packaging: Ammo Pack; Height: 11 mm; Diameter: 5 mm; Capacitance: 56 µF
footprint WCAP-ATUL_D5H11
simulation model 860040372001_56uF
pins: 1 P, 2 N
text: +

## 860040373002
designator C?, comment 100 µF
WCAP-ATUL Aluminum Electrolytic Capacitor, Radial, THT, D6.3 x H11 mm, 100 µF, 16 V; Manufacturer Part Number: 860040373002; Manufacturer: Wurth Elektronik; Capacitance Tolerance: 20%; Dissipation Factor: 16%; Endurance: 5000 h; Leakage Current: 16 µA; Rated Voltage (DC): 16 V; Ripple Current: 280 mA; Category: Aluminum Electrolytic Capacitors; Match Code: WCAP-ATUL; ComponentLink1Description: Website Link; ComponentLink1URL: https://www.we-online.com/redexpert/article/860040373002?ad; ComponentLink2Description: Datasheet Link; ComponentLink2URL: https://www.we-online.com/redexpert/spec/860040373002?ad; Mount: Through Hole; Min Operating Temperature: -40 °C; Max Operating Temperature: 105 °C; Packaging: Ammo Pack; Height: 11 mm; Diameter: 6.3 mm; Capacitance: 100 µF
footprint WCAP-ATUL_D6.3H11
simulation model 860040373002_100uF
pins: 1 P, 2 N
text: +

## 860040373003
designator C?, comment 120 µF
WCAP-ATUL Aluminum Electrolytic Capacitor, Radial, THT, D6.3 x H11 mm, 120 µF, 16 V; Manufacturer Part Number: 860040373003; Manufacturer: Wurth Elektronik; Capacitance Tolerance: 20%; Dissipation Factor: 16%; Endurance: 5000 h; Leakage Current: 19.2 µA; Rated Voltage (DC): 16 V; Ripple Current: 310 mA; Category: Aluminum Electrolytic Capacitors; Match Code: WCAP-ATUL; ComponentLink1Description: Website Link; ComponentLink1URL: https://www.we-online.com/redexpert/article/860040373003?ad; ComponentLink2Description: Datasheet Link; ComponentLink2URL: https://www.we-online.com/redexpert/spec/860040373003?ad; Mount: Through Hole; Min Operating Temperature: -40 °C; Max Operating Temperature: 105 °C; Packaging: Ammo Pack; Height: 11 mm; Diameter: 6.3 mm; Capacitance: 120 µF
footprint WCAP-ATUL_D6.3H11
simulation model 860040373003_120uF
pins: 1 P, 2 N
text: +

## 860040374004
designator C?, comment 220 µF
WCAP-ATUL Aluminum Electrolytic Capacitor, Radial, THT, D8 x H11.5 mm, 220 µF, 16 V; Manufacturer Part Number: 860040374004; Manufacturer: Wurth Elektronik; Capacitance Tolerance: 20%; Dissipation Factor: 16%; Endurance: 7000 h; Leakage Current: 35.2 µA; Rated Voltage (DC): 16 V; Ripple Current: 480 mA; Category: Aluminum Electrolytic Capacitors; Match Code: WCAP-ATUL; ComponentLink1Description: Website Link; ComponentLink1URL: https://www.we-online.com/redexpert/article/860040374004?ad; ComponentLink2Description: Datasheet Link; ComponentLink2URL: https://www.we-online.com/redexpert/spec/860040374004?ad; Mount: Through Hole; Min Operating Temperature: -40 °C; Max Operating Temperature: 105 °C; Packaging: Ammo Pack; Height: 11.5 mm; Diameter: 8 mm; Capacitance: 220 µF
footprint WCAP-ATUL_D8H11.5
simulation model 860040374004_220uF
pins: 1 P, 2 N
text: +

## 860040374005
designator C?, comment 330 µF
WCAP-ATUL Aluminum Electrolytic Capacitor, Radial, THT, D8 x H11.5 mm, 330 µF, 16 V; Manufacturer Part Number: 860040374005; Manufacturer: Wurth Elektronik; Capacitance Tolerance: 20%; Dissipation Factor: 16%; Endurance: 7000 h; Leakage Current: 52.8 µA; Rated Voltage (DC): 16 V; Ripple Current: 600 mA; Category: Aluminum Electrolytic Capacitors; Match Code: WCAP-ATUL; ComponentLink1Description: Website Link; ComponentLink1URL: https://www.we-online.com/redexpert/article/860040374005?ad; ComponentLink2Description: Datasheet Link; ComponentLink2URL: https://www.we-online.com/redexpert/spec/860040374005?ad; Mount: Through Hole; Min Operating Temperature: -40 °C; Max Operating Temperature: 105 °C; Packaging: Ammo Pack; Height: 11.5 mm; Diameter: 8 mm; Capacitance: 330 µF
footprint WCAP-ATUL_D8H11.5
simulation model 860040374005_330uF
pins: 1 P, 2 N
text: +

## 860040374006
designator C?, comment 470 µF
WCAP-ATUL Aluminum Electrolytic Capacitor, Radial, THT, D8 x H16 mm, 470 µF, 16 V; Manufacturer Part Number: 860040374006; Manufacturer: Wurth Elektronik; Capacitance Tolerance: 20%; Dissipation Factor: 16%; Endurance: 7000 h; Leakage Current: 75.2 µA; Rated Voltage (DC): 16 V; Ripple Current: 780 mA; Category: Aluminum Electrolytic Capacitors; Match Code: WCAP-ATUL; ComponentLink1Description: Website Link; ComponentLink1URL: https://www.we-online.com/redexpert/article/860040374006?ad; ComponentLink2Description: Datasheet Link; ComponentLink2URL: https://www.we-online.com/redexpert/spec/860040374006?ad; Mount: Through Hole; Min Operating Temperature: -40 °C; Max Operating Temperature: 105 °C; Packaging: Ammo Pack; Height: 16 mm; Diameter: 8 mm; Capacitance: 470 µF
footprint WCAP-ATUL_D8H16
simulation model 860040374006_470uF
pins: 1 P, 2 N
text: +

## 860040374008
designator C?, comment 680 µF
WCAP-ATUL Aluminum Electrolytic Capacitor, Radial, THT, D8 x H20 mm, 680 µF, 16 V; Manufacturer Part Number: 860040374008; Manufacturer: Wurth Elektronik; Capacitance Tolerance: 20%; Dissipation Factor: 16%; Endurance: 7000 h; Leakage Current: 108.8 µA; Rated Voltage (DC): 16 V; Ripple Current: 1000 mA; Category: Aluminum Electrolytic Capacitors; Match Code: WCAP-ATUL; ComponentLink1Description: Website Link; ComponentLink1URL: https://www.we-online.com/redexpert/article/860040374008?ad; ComponentLink2Description: Datasheet Link; ComponentLink2URL: https://www.we-online.com/redexpert/spec/860040374008?ad; Mount: Through Hole; Min Operating Temperature: -40 °C; Max Operating Temperature: 105 °C; Packaging: Ammo Pack; Height: 20 mm; Diameter: 8 mm; Capacitance: 680 µF
footprint WCAP-ATUL_D8H20
simulation model 860040374008_680uF
pins: 1 P, 2 N
text: +

## 860040375007
designator C?, comment 470 µF
WCAP-ATUL Aluminum Electrolytic Capacitor, Radial, THT, D10 x H12.5 mm, 470 µF, 16 V; Manufacturer Part Number: 860040375007; Manufacturer: Wurth Elektronik; Capacitance Tolerance: 20%; Dissipation Factor: 16%; Endurance: 7000 h; Leakage Current: 75.2 µA; Rated Voltage (DC): 16 V; Ripple Current: 800 mA; Category: Aluminum Electrolytic Capacitors; Match Code: WCAP-ATUL; ComponentLink1Description: Website Link; ComponentLink1URL: https://www.we-online.com/redexpert/article/860040375007?ad; ComponentLink2Description: Datasheet Link; ComponentLink2URL: https://www.we-online.com/redexpert/spec/860040375007?ad; Mount: Through Hole; Min Operating Temperature: -40 °C; Max Operating Temperature: 105 °C; Packaging: Ammo Pack; Height: 12.5 mm; Diameter: 10 mm; Capacitance: 470 µF
footprint WCAP-ATUL_D10H12.5
simulation model 860040375007_470uF
pins: 1 P, 2 N
text: +

## 860040375009
designator C?, comment 820 µF
WCAP-ATUL Aluminum Electrolytic Capacitor, Radial, THT, D10 x H20 mm, 820 µF, 16 V; Manufacturer Part Number: 860040375009; Manufacturer: Wurth Elektronik; Capacitance Tolerance: 20%; Dissipation Factor: 16%; Endurance: 7000 h; Leakage Current: 131.2 µA; Rated Voltage (DC): 16 V; Ripple Current: 1280 mA; Category: Aluminum Electrolytic Capacitors; Match Code: WCAP-ATUL; ComponentLink1Description: Website Link; ComponentLink1URL: https://www.we-online.com/redexpert/article/860040375009?ad; ComponentLink2Description: Datasheet Link; ComponentLink2URL: https://www.we-online.com/redexpert/spec/860040375009?ad; Mount: Through Hole; Min Operating Temperature: -40 °C; Max Operating Temperature: 105 °C; Packaging: Ammo Pack; Height: 20 mm; Diameter: 10 mm; Capacitance: 820 µF
footprint WCAP-ATUL_D10H20
simulation model 860040375009_820uF
pins: 1 P, 2 N
text: +

## 860040375010
designator C?, comment 1000 µF
WCAP-ATUL Aluminum Electrolytic Capacitor, Radial, THT, D10 x H20 mm, 1000 µF, 16 V; Manufacturer Part Number: 860040375010; Manufacturer: Wurth Elektronik; Capacitance Tolerance: 20%; Dissipation Factor: 16%; Endurance: 7000 h; Leakage Current: 160 µA; Rated Voltage (DC): 16 V; Ripple Current: 1380 mA; Category: Aluminum Electrolytic Capacitors; Match Code: WCAP-ATUL; ComponentLink1Description: Website Link; ComponentLink1URL: https://www.we-online.com/redexpert/article/860040375010?ad; ComponentLink2Description: Datasheet Link; ComponentLink2URL: https://www.we-online.com/redexpert/spec/860040375010?ad; Mount: Through Hole; Min Operating Temperature: -40 °C; Max Operating Temperature: 105 °C; Packaging: Ammo Pack; Height: 20 mm; Diameter: 10 mm; Capacitance: 1000 µF
footprint WCAP-ATUL_D10H20
simulation model 860040375010_1mF
pins: 1 P, 2 N
text: +

## 860040375012
designator C?, comment 1200 µF
WCAP-ATUL Aluminum Electrolytic Capacitor, Radial, THT, D10 x H25 mm, 1200 µF, 16 V; Manufacturer Part Number: 860040375012; Manufacturer: Wurth Elektronik; Capacitance Tolerance: 20%; Dissipation Factor: 16%; Endurance: 7000 h; Leakage Current: 192 µA; Rated Voltage (DC): 16 V; Ripple Current: 1560 mA; Category: Aluminum Electrolytic Capacitors; Match Code: WCAP-ATUL; ComponentLink1Description: Website Link; ComponentLink1URL: https://www.we-online.com/redexpert/article/860040375012?ad; ComponentLink2Description: Datasheet Link; ComponentLink2URL: https://www.we-online.com/redexpert/spec/860040375012?ad; Mount: Through Hole; Min Operating Temperature: -40 °C; Max Operating Temperature: 105 °C; Packaging: Ammo Pack; Height: 25 mm; Diameter: 10 mm; Capacitance: 1200 µF
footprint WCAP-ATUL_D10H25
simulation model 860040375012_1.2mF
pins: 1 P, 2 N
text: +

## 860040378011
designator C?, comment 1000 µF
WCAP-ATUL Aluminum Electrolytic Capacitor, Radial, THT, D13 x H16 mm, 1000 µF, 16 V; Manufacturer Part Number: 860040378011; Manufacturer: Wurth Elektronik; Capacitance Tolerance: 20%; Dissipation Factor: 16%; Endurance: 10000 h; Leakage Current: 160 µA; Rated Voltage (DC): 16 V; Ripple Current: 1420 mA; Category: Aluminum Electrolytic Capacitors; Match Code: WCAP-ATUL; ComponentLink1Description: Website Link; ComponentLink1URL: https://www.we-online.com/redexpert/article/860040378011?ad; ComponentLink2Description: Datasheet Link; ComponentLink2URL: https://www.we-online.com/redexpert/spec/860040378011?ad; Mount: Through Hole; Min Operating Temperature: -40 °C; Max Operating Temperature: 105 °C; Packaging: Ammo Pack; Height: 16 mm; Diameter: 13 mm; Capacitance: 1000 µF
footprint WCAP-ATUL_D13H16
simulation model 860040378011_1mF
pins: 1 P, 2 N
text: +

## 860040378013
designator C?, comment 1500 µF
WCAP-ATUL Aluminum Electrolytic Capacitor, Radial, THT, D13 x H20 mm, 1500 µF, 16 V; Manufacturer Part Number: 860040378013; Manufacturer: Wurth Elektronik; Capacitance Tolerance: 20%; Dissipation Factor: 16%; Endurance: 10000 h; Leakage Current: 240 µA; Rated Voltage (DC): 16 V; Ripple Current: 1720 mA; Category: Aluminum Electrolytic Capacitors; Match Code: WCAP-ATUL; ComponentLink1Description: Website Link; ComponentLink1URL: https://www.we-online.com/redexpert/article/860040378013?ad; ComponentLink2Description: Datasheet Link; ComponentLink2URL: https://www.we-online.com/redexpert/spec/860040378013?ad; Mount: Through Hole; Min Operating Temperature: -40 °C; Max Operating Temperature: 105 °C; Packaging: Ammo Pack; Height: 20 mm; Diameter: 13 mm; Capacitance: 1500 µF
footprint WCAP-ATUL_D13H20
simulation model 860040378013_1.5mF
pins: 1 P, 2 N
text: +

## 860040378014
designator C?, comment 1800 µF
WCAP-ATUL Aluminum Electrolytic Capacitor, Radial, THT, D13 x H25 mm, 1800 µF, 16 V; Manufacturer Part Number: 860040378014; Manufacturer: Wurth Elektronik; Capacitance Tolerance: 20%; Dissipation Factor: 16%; Endurance: 10000 h; Leakage Current: 288 µA; Rated Voltage (DC): 16 V; Ripple Current: 2030 mA; Category: Aluminum Electrolytic Capacitors; Match Code: WCAP-ATUL; ComponentLink1Description: Website Link; ComponentLink1URL: https://www.we-online.com/redexpert/article/860040378014?ad; ComponentLink2Description: Datasheet Link; ComponentLink2URL: https://www.we-online.com/redexpert/spec/860040378014?ad; Mount: Through Hole; Min Operating Temperature: -40 °C; Max Operating Temperature: 105 °C; Packaging: Ammo Pack; Height: 25 mm; Diameter: 13 mm; Capacitance: 1800 µF
footprint WCAP-ATUL_D13H25
simulation model 860040378014_1.8mF
pins: 1 P, 2 N
text: +

## 860040378015
designator C?, comment 2200 µF
WCAP-ATUL Aluminum Electrolytic Capacitor, Radial, THT, D13 x H25 mm, 2200 µF, 16 V; Manufacturer Part Number: 860040378015; Manufacturer: Wurth Elektronik; Capacitance Tolerance: 20%; Dissipation Factor: 16%; Endurance: 10000 h; Leakage Current: 352 µA; Rated Voltage (DC): 16 V; Ripple Current: 2200 mA; Category: Aluminum Electrolytic Capacitors; Match Code: WCAP-ATUL; ComponentLink1Description: Website Link; ComponentLink1URL: https://www.we-online.com/redexpert/article/860040378015?ad; ComponentLink2Description: Datasheet Link; ComponentLink2URL: https://www.we-online.com/redexpert/spec/860040378015?ad; Mount: Through Hole; Min Operating Temperature: -40 °C; Max Operating Temperature: 105 °C; Packaging: Ammo Pack; Height: 25 mm; Diameter: 13 mm; Capacitance: 2200 µF
footprint WCAP-ATUL_D13H25
simulation model 860040378015_2.2mF
pins: 1 P, 2 N
text: +

## 860040378016
designator C?, comment 2700 µF
WCAP-ATUL Aluminum Electrolytic Capacitor, Radial, THT, D13 x H30 mm, 2700 µF, 16 V; Manufacturer Part Number: 860040378016; Manufacturer: Wurth Elektronik; Capacitance Tolerance: 20%; Dissipation Factor: 16%; Endurance: 10000 h; Leakage Current: 432 µA; Rated Voltage (DC): 16 V; Ripple Current: 2600 mA; Category: Aluminum Electrolytic Capacitors; Match Code: WCAP-ATUL; ComponentLink1Description: Website Link; ComponentLink1URL: https://www.we-online.com/redexpert/article/860040378016?ad; ComponentLink2Description: Datasheet Link; ComponentLink2URL: https://www.we-online.com/redexpert/spec/860040378016?ad; Mount: Through Hole; Min Operating Temperature: -40 °C; Max Operating Temperature: 105 °C; Packaging: Ammo Pack; Height: 30 mm; Diameter: 13 mm; Capacitance: 2700 µF
footprint WCAP-ATUL_D13H30
simulation model 860040378016_2.7mF
pins: 1 P, 2 N
text: +

## 860040378017
designator C?, comment 3300 µF
WCAP-ATUL Aluminum Electrolytic Capacitor, Radial, THT, D13 x H35 mm, 3300 µF, 16 V; Manufacturer Part Number: 860040378017; Manufacturer: Wurth Elektronik; Capacitance Tolerance: 20%; Dissipation Factor: 16%; Endurance: 10000 h; Leakage Current: 528 µA; Rated Voltage (DC): 16 V; Ripple Current: 2860 mA; Category: Aluminum Electrolytic Capacitors; Match Code: WCAP-ATUL; ComponentLink1Description: Website Link; ComponentLink1URL: https://www.we-online.com/redexpert/article/860040378017?ad; ComponentLink2Description: Datasheet Link; ComponentLink2URL: https://www.we-online.com/redexpert/spec/860040378017?ad; Mount: Through Hole; Min Operating Temperature: -40 °C; Max Operating Temperature: 105 °C; Packaging: Ammo Pack; Height: 35 mm; Diameter: 13 mm; Capacitance: 3300 µF
footprint WCAP-ATUL_D13H35
simulation model 860040378017_3.3mF
pins: 1 P, 2 N
text: +

## 860040381001
designator C?, comment 10000 µF
WCAP-ATUL Aluminum Electrolytic Capacitor, Radial, THT, D18 x H40 mm, 10000 µF, 16 V; Manufacturer Part Number: 860040381001; Manufacturer: Wurth Elektronik; Capacitance Tolerance: 20%; Dissipation Factor: 34%; Endurance: 10000 h; Leakage Current: 1600 µA; Rated Voltage (DC): 16 V; Ripple Current: 4290 mA; Category: Aluminum Electrolytic Capacitors; Match Code: WCAP-ATUL; ComponentLink1Description: Website Link; ComponentLink1URL: https://www.we-online.com/redexpert/article/860040381001?ad; ComponentLink2Description: Datasheet Link; ComponentLink2URL: https://www.we-online.com/redexpert/spec/860040381001?ad; Mount: Through Hole; Min Operating Temperature: -40 °C; Max Operating Temperature: 105 °C; Packaging: Tray; Height: 40 mm; Diameter: 18 mm; Capacitance: 10000 µF
footprint WCAP-ATUL_D18H40
simulation model 860040381001_10mF
pins: 1 P, 2 N
text: +

## 860040381018
designator C?, comment 4700 µF
WCAP-ATUL Aluminum Electrolytic Capacitor, Radial, THT, D18 x H25 mm, 4700 µF, 16 V; Manufacturer Part Number: 860040381018; Manufacturer: Wurth Elektronik; Capacitance Tolerance: 20%; Dissipation Factor: 16%; Endurance: 10000 h; Leakage Current: 752 µA; Rated Voltage (DC): 16 V; Ripple Current: 3000 mA; Category: Aluminum Electrolytic Capacitors; Match Code: WCAP-ATUL; ComponentLink1Description: Website Link; ComponentLink1URL: https://www.we-online.com/redexpert/article/860040381018?ad; ComponentLink2Description: Datasheet Link; ComponentLink2URL: https://www.we-online.com/redexpert/spec/860040381018?ad; Mount: Through Hole; Min Operating Temperature: -40 °C; Max Operating Temperature: 105 °C; Packaging: Ammo Pack; Height: 25 mm; Diameter: 18 mm; Capacitance: 4700 µF
footprint WCAP-ATUL_D18H25
simulation model 860040381018_4.7mF
pins: 1 P, 2 N
text: +